# Altium schematic symbol library Diversos.SchLib: 6 symbols
Pins are listed as number, name and electrical type; pins without a type are passive.

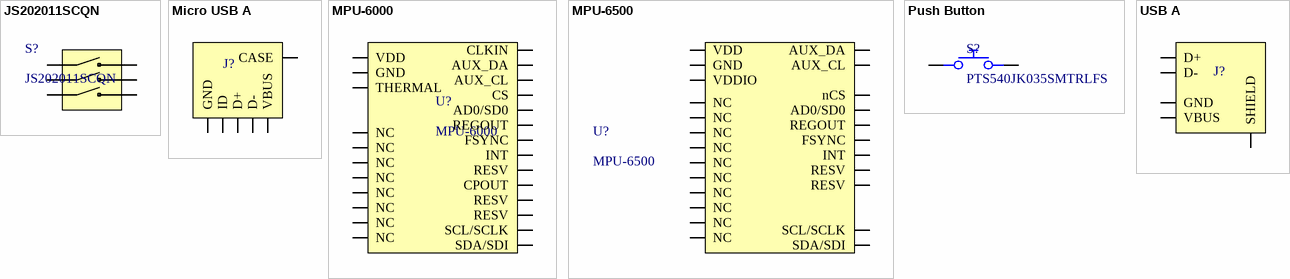
[diagram p0: symbols JS202011SCQN to USB A]

## JS202011SCQN
designator S?
DEEP SWITCH 4 POSITIONS; Manufacturer: C&K; Current Rating: 300 mA; Voltage Rating DC: 30 VDC; Switch Function: ON - ON; Part Number: JS202011SCQN; Operating Temperature(max - min): + 70°C to - 20°C; Supplier: Mouser; ComponentLink1Description: Mouser Link; ComponentLink1URL: https://br.mouser.com/ProductDetail/CK/JS202011SCQN?qs=LgMIjt8LuD95JYWxZ7NvZA%3D%3D; ComponentLink2Description: Datasheet Link; ComponentLink2URL: https://www.mouser.com/datasheet/2/60/js-1841892.pdf; Mouser Part Number: 611-JS202011SCQN; Library Ref: Switch; Library Control - Checked Footprint: *; Library Control - Last Project that Used: *; Library Control - Last Update: *; Library Control - Person that Checked Footprint: *; Library Control - Person that Checked Schematic: *; Library Control - Person that did the Last Update Footprint: *; Library Control - Person that did the Last Update Schematic: *
footprint JS202011SCQN
pins: 1, 2, 3, 4, 5, 6

## Micro USB A
designator J?, comment 54819-0572  (value not drawn)
JACK  MICRO USB 5 PIN SMD; Manufacturer: Molex; Gender: Jack (Female); Number of Contacts: 5; Number of Ports: 1; Current Rating: 1A; ComponentLink1Description: Datasheet; ComponentLink1URL: https://www.mouser.com/datasheet/2/276/0548190572_IO_CONNECTORS-228789.pdf; ComponentLink2Description: Mouser Link; ComponentLink2URL: https://www.mouser.com/ProductDetail/Molex/54819-0572?qs=%2Fha2pyFaduhSjmXTlh7uTKb4u%252BU9CG7lIY8IPbUrigz%252BPRMQHLgocQ%3D%3D&utm_source=octopart&utm_medium=aggregator&utm_campaign=538-54819-0572&utm_content=Molex; Part Number: 54819-0572; Price: 1=1,40, 10=1,20 100=1,03 500 = 0,981 (USD); Termination Type: SMD/SMT; Supplier 1: Mouser; Library Ref: Micro USB; Supplier Part Number 1: 538-54819-0572
footprint Micro USB
pins: CASE, D+, D-, GND, ID, VBUS

## MPU-6000
designator U?
IMU 6 AXIS; Manufacturer: TDK; Sensor Type: 9 axis; Sensing Axis: X, Y, Z; Sensitivity: 340 LSB/C; Aceleration: 1000g; Output Type: Digital; Interferance Type: I2C, SPI; Operating Supply Current: 3.9 mA; Supply Voltage (Min - Máx): (2.375 - 3.46)V; ComponentLink1Description: Datasheet; ComponentLink1URL: https://product.tdk.com/system/files/dam/doc/product/sensor/mortion-inertial/imu/data_sheet/mpu-6000-datasheet1.pdf; ComponentLink2Description: Mouser Link; ComponentLink2URL: https://www.mouser.com/ProductDetail/TDK-InvenSense/MPU-6000?qs=u4fy%2FsgLU9NMLimeLRzXLA%3D%3D; Part Number: MPU-6000; Price: 1=10,42, 10=7,72, 100=6,68, 500=6,05, 1000=5,84 (USD); Package / Case: Lead QFN (4x4x0.9) mm; Operating Temperature (Min - Máx): (-40 - 105) C; Supplier 1: Mouser; Library Ref: Sensor
footprint QFN 24 PIN THERMAL PAD (QFN, 24-Leads, Body 4,00x4,00mm, Pitch 0,50mm, Thermal Pad 2,70x2,60mm, IPC Medium Density)
pins: 1 CLKIN, 2 NC, 3 NC, 4 NC, 5 NC, 6 AUX_DA, 7 AUX_CL, 8 CS, 9 AD0/SD0, 10 REGOUT, 11 FSYNC, 12 INT, 13 VDD, 14 NC, 15 NC, 16 NC, 17 NC, 18 GND, 19 RESV, 20 CPOUT, 21 RESV, 22 RESV, 23 SCL/SCLK, 24 SDA/SDI, 25 THERMAL

## MPU-6500
designator U?
MPU 6 AXIS; Manufacturer: TDK InvenSense; Sensor type: 6 axis; Sensing axis: X,Y,Z; Sensivity: 333.87 LSB/°C; Acceleration: 10000g; Output type: Digital; Operating supply current: 3.4mA; Supply voltage (min – max): 1,8 to +3.3 V; Part number: MPU - 6500; Package/case: Lead QFN (3x3x0.9) mm; Operating temperature (min – max): -40°C to +105°C; Supplier 1: Mouser; Library Ref: Sensor; Library Control - Checked Footprint: *; Library Control - Last Project that Used: *; Library Control - Last Update: *; Library Control - Person that Checked Footprint: *; Library Control - Person that Checked Schematic: *; Library Control - Person that did the Last Update Footprint: *; Library Control - Person that did the Last Update Schematic: *; ComponentLink1Description: Mouser Link; ComponentLink1URL: https://br.mouser.com/ProductDetail/TDK-InvenSense/MPU-6500?qs=u4fy%2FsgLU9PiIOIlWOSPhQ%3D%3D; ComponentLink2Description: Datasheet Link; ComponentLink2URL: https://product.tdk.com/system/files/dam/doc/product/sensor/mortion-inertial/imu/data_sheet/mpu-6500-datasheet2.pdf
footprint QFN 24 PIN THERMAL PAD (QFN, 24-Leads, Body 4,00x4,00mm, Pitch 0,50mm, Thermal Pad 2,70x2,60mm, IPC Medium Density)
pins: 1 NC, 2 NC, 3 NC, 4 NC, 5 NC, 6 NC, 7 AUX_CL, 8 VDDIO, 9 AD0/SD0, 10 REGOUT, 11 FSYNC, 12 INT, 13 VDD, 14 NC, 15 NC, 16 NC, 17 NC, 18 GND, 19 RESV, 20 RESV, 21 AUX_DA, 22 nCS, 23 SCL/SCLK, 24 SDA/SDI

## Push Button
designator S?, comment PTS540JK035SMTRLFS
TACTILE SWITCH SPST 0.05A 12VDC SMD; Manufacturer: C&K Switches; Voltage Rating (DC): 12V; Current Rating: 50mA; Switch Function: Off-On; Operating Force: 230gf; ComponentLink1Description: Datasheet; ComponentLink1URL: https://www.mouser.com/datasheet/2/60/pts540-1841856.pdf; ComponentLink2Description: Mouser Link; ComponentLink2URL: https://www.mouser.com/ProductDetail/CK/PTS540JK035SMTRLFS?qs=nsc5Ve2%252BdoHscnqTjIh87g%3D%3D; Supplier 1: Mouser; Part Number: PTS540JK035SMTRLFS; Category: Tactile Switches; Pricing 1: 1=0,18, 10=0,174, 100=0,15, 500=0,122, 1000=0,103 (USD); Throw Configuration: SPST; Orientation: Straight; Supplier Part Number 1: 611-PTS540JK035SMTRL; Library Ref: Tactile Switches
footprint PUSH_BUTTON
pins: 1, 2

## USB A
designator J?, comment 896-30-004-00-000000  (value not drawn)
JACK USB A 4 PIN SMD; Manufacturer: Mill-Max; Gender: Jack (Female); Number of Contacts: 4; Number of Ports: 1; Current Rating: 1A; ComponentLink1Description: Datasheet; ComponentLink1URL: https://www.mouser.com/datasheet/2/273/148-259756.pdf; ComponentLink2Description: Mouser Link; ComponentLink2URL: https://www.mouser.com/ProductDetail/Mill-Max/896-30-004-00-000000?qs=D%252By4jQJzx8JJoHwL%252BZMxXQ%3D%3D; Part Number: 896-30-004-00-000000; Price: 1=1,89, 10=1,54 (USD); Termination Type: SMD/SMT; Supplier 1: Mouser; Library Ref: USB; Supplier Part Number 1: 575-896340
footprint USB TYPE A
pins: D+, D-, GND, S SHIELD, VBUS